# EAGLE library part LMV358IDGKR (library work)
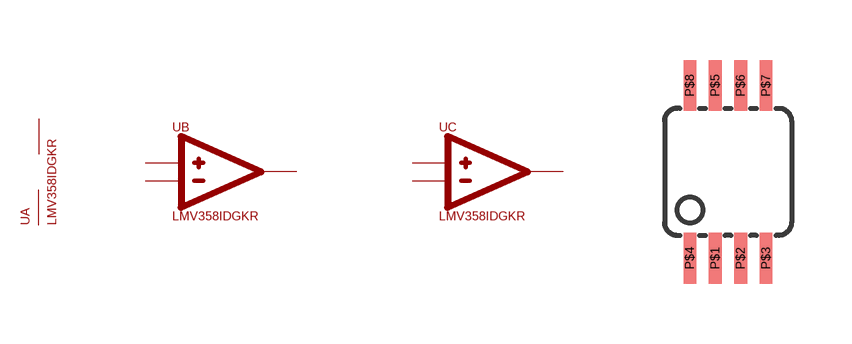
[diagram p6: symbol with the pads of MSOP-8; footprint MSOP-8]

Designator prefix U; gates A=LMV358IDGKR-A B=LMV358IDGKR-B C=LMV358IDGKR-C

## LMV358IDGKR  [MSOP-8]
P$1  C:1
P$2  C:2
P$3  C:3
P$4  A:4
P$5  B:5
P$6  B:6
P$7  B:7
P$8  A:8

## Footprint MSOP-8 (pad centres in mm)
smd 0.318 x 1.27: P$1 -0.318,-2.159; P$2 0.318,-2.159; P$3 0.953,-2.159; P$4 -0.953,-2.159; P$5 -0.318,2.159; P$6 0.318,2.159; P$7 0.953,2.159; P$8 -0.953,2.159